# EAGLE library part BSC072N03LD (library RoboJackets-Discrete)
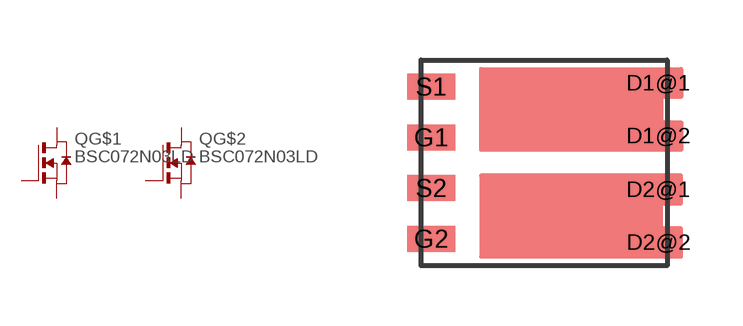
[diagram p0: symbol with the pads of BSC072N03LD; footprint BSC072N03LD]

Designator prefix Q; gates G$1=N_MOSFET G$2=N_MOSFET

## BSC072N03LD  [BSC072N03LD]
D1@1  G$1:D  pas
D1@2  G$1:D  pas
D2@1  G$2:D  pas
D2@2  G$2:D  pas
G1  G$1:G  pas
G2  G$2:G  pas
S1  G$1:S  pas
S2  G$2:S  pas

## Footprint BSC072N03LD (pad centres in mm)
smd 1.2 x 0.65: D1@1 2.857,2.009; D1@2 2.857,0.689; D2@1 2.857,-0.657; D2@2 2.864,-1.98; G1 -2.825,0.634; G2 -2.825,-1.905; S1 -2.825,1.905; S2 -2.825,-0.634